# EAGLE library part FABO-ARDUINO-MEGA (library FaBo-Template)
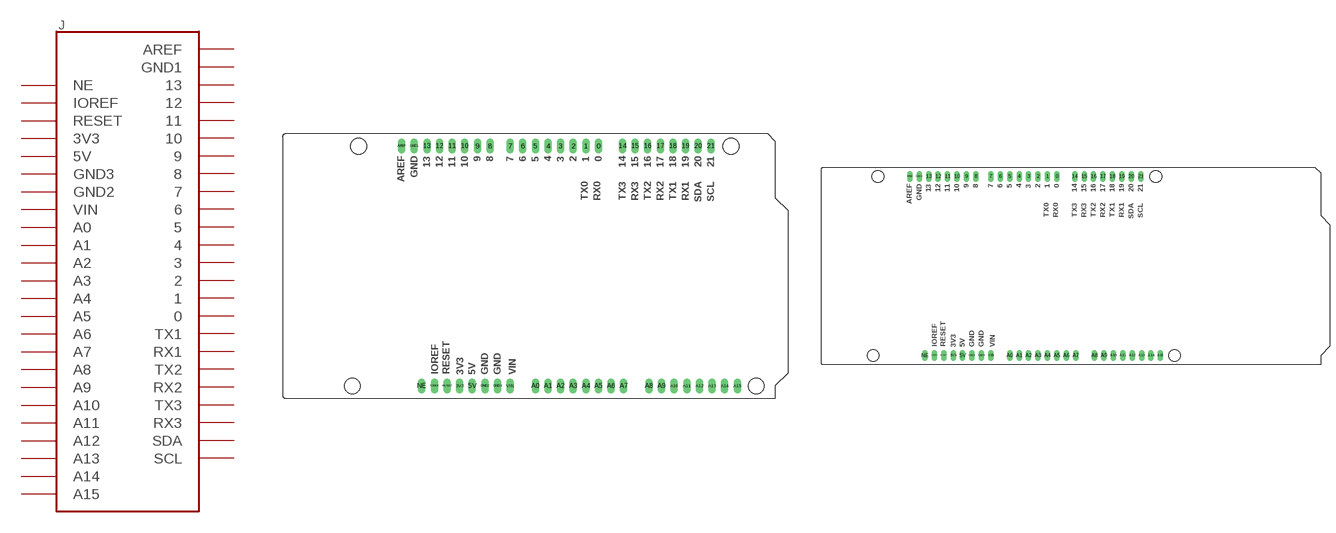
[diagram p10: symbol with the pads of FABO-ARDUINO-MEGA; footprints FABO-ARDUINO-MEGA, FABO-ARDUINO-MEGA-LONG]

Designator prefix J

## FABO-ARDUINO-MEGA  [FABO-ARDUINO-MEGA]
0  0
1  1
2  2
3  3
3V3  3V3
4  4
5  5
5V  5V
6  6
7  7
8  8
9  9
10  10
11  11
12  12
13  13
14  TX1
15  RX1
16  TX2
17  RX2
18  TX3
19  RX3
20  SDA
21  SCL
A0  A0
A1  A1
A2  A2
A3  A3
A4  A4
A5  A5
A6  A6
A7  A7
A8  A8
A9  A9
A10  A10
A11  A11
A12  A12
A13  A13
A14  A14
A15  A15
AREF  AREF
GND1  GND1
GND2  GND2
GND3  GND3
IOREF  IOREF
NE  NE
RESET  RESET
VIN  VIN

## FABO-ARDUINO-MEGA-LONG  [FABO-ARDUINO-MEGA-LONG]
0  0
1  1
2  2
3  3
3V3  3V3
4  4
5  5
5V  5V
6  6
7  7
8  8
9  9
10  10
11  11
12  12
13  13
14  TX3
15  RX3
16  TX2
17  RX2
18  TX1
19  RX1
20  SDA
21  SCL
A0  A0
A1  A1
A2  A2
A3  A3
A4  A4
A5  A5
A6  A6
A7  A7
A8  A8
A9  A9
A10  A10
A11  A11
A12  A12
A13  A13
A14  A14
A15  A15
AREF  AREF
GND1  GND1
GND2  GND2
GND3  GND3
IOREF  IOREF
NE  NE
RESET  RESET
VIN  VIN

## Footprint FABO-ARDUINO-MEGA (pad centres in mm)
drill 1 pad 1.422 long: 0 28.207,23.622; 1 25.667,23.622; 2 23.127,23.622; 3 20.587,23.622; 3V3 0.267,-24.638; 4 18.047,23.622; 5 15.507,23.622; 5V 2.807,-24.638; 6 12.967,23.622; 7 10.427,23.622; 8 6.363,23.622; 9 3.823,23.622; 10 1.283,23.622; 11 -1.257,23.622; 12 -3.797,23.622; 13 -6.337,23.622; 14 33.033,23.622; 15 35.573,23.622; 16 38.113,23.622; 17 40.653,23.622; 18 43.193,23.622; 19 45.733,23.622; 20 48.273,23.622; 21 50.813,23.622; A0 15.507,-24.638; A1 18.047,-24.638; A2 20.587,-24.638; A3 23.127,-24.638; A4 25.667,-24.638; A5 28.207,-24.638; A6 30.747,-24.638; A7 33.287,-24.638; A8 38.367,-24.638; A9 40.907,-24.638; A10 43.447,-24.638; A11 45.987,-24.638; A12 48.527,-24.638; A13 51.067,-24.638; A14 53.607,-24.638; A15 56.147,-24.638; AREF -11.417,23.622; GND1 -8.877,23.622; GND2 5.347,-24.638; GND3 7.887,-24.638; IOREF -4.813,-24.638; NE -7.353,-24.638; RESET -2.273,-24.638; VIN 10.427,-24.638
hole 3.2 at 54.864,23.622
hole 3.2 at 59.944,-24.638
hole 3.2 at -20.066,23.622
hole 3.2 at -21.336,-24.638

## Footprint FABO-ARDUINO-MEGA-LONG (pad centres in mm)
drill 1 pad 1.422 long: 0 12.967,23.622; 1 10.427,23.622; 2 7.887,23.622; 3 5.347,23.622; 3V3 -14.973,-24.638; 4 2.807,23.622; 5 0.267,23.622; 5V -12.433,-24.638; 6 -2.273,23.622; 7 -4.813,23.622; 8 -8.877,23.622; 9 -11.417,23.622; 10 -13.957,23.622; 11 -16.497,23.622; 12 -19.037,23.622; 13 -21.577,23.622; 14 17.793,23.622; 15 20.333,23.622; 16 22.873,23.622; 17 25.413,23.622; 18 27.953,23.622; 19 30.493,23.622; 20 33.033,23.622; 21 35.573,23.622; A0 0.267,-24.638; A1 2.807,-24.638; A2 5.347,-24.638; A3 7.887,-24.638; A4 10.427,-24.638; A5 12.967,-24.638; A6 15.507,-24.638; A7 18.047,-24.638; A8 23.127,-24.638; A9 25.667,-24.638; A10 28.207,-24.638; A11 30.747,-24.638; A12 33.287,-24.638; A13 35.827,-24.638; A14 38.367,-24.638; A15 40.907,-24.638; AREF -26.657,23.622; GND1 -24.117,23.622; GND2 -9.893,-24.638; GND3 -7.353,-24.638; IOREF -20.053,-24.638; NE -22.593,-24.638; RESET -17.513,-24.638; VIN -4.813,-24.638
hole 3.2 at 39.624,23.622
hole 3.2 at 44.704,-24.638
hole 3.2 at -35.306,23.622
hole 3.2 at -36.576,-24.638